# EAGLE library part PLCC32_PLUG (library 000001)
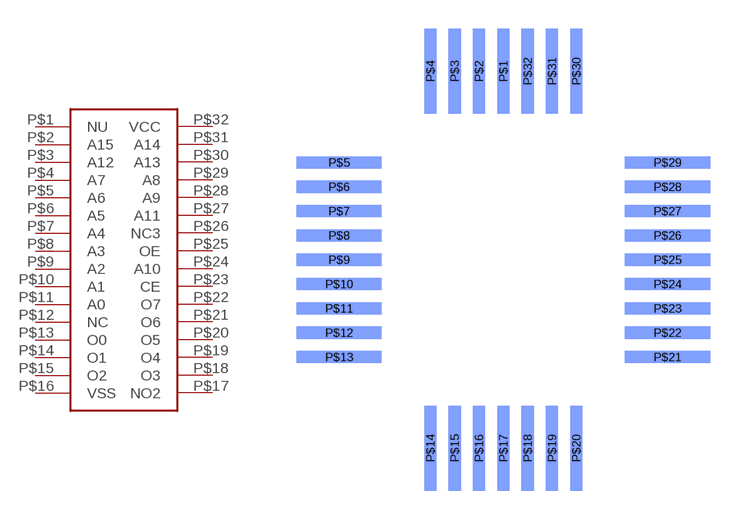
[diagram p59: symbol with the pads of PLCC32_PLUG_SMD; footprint PLCC32_PLUG_SMD]

Designator prefix -

## PLCC32_PLUG  [PLCC32_PLUG_SMD]
P$1  NU
P$2  A15
P$3  A12
P$4  A7
P$5  A6
P$6  A5
P$7  A4
P$8  A3
P$9  A2
P$10  A1
P$11  A0
P$12  NC
P$13  O0
P$14  O1
P$15  O2
P$16  VSS
P$17  NO2
P$18  O3
P$19  O4
P$20  O5
P$21  O6
P$22  O7
P$23  CE
P$24  A10
P$25  OE
P$26  NC3
P$27  A11
P$28  A9
P$29  A8
P$30  A13
P$31  A14
P$32  VCC

## Footprint PLCC32_PLUG_SMD (pad centres in mm)
smd 0.635 x 4.445 bottom: P$1 0,9.842; P$2 -1.27,9.842; P$3 -2.54,9.842; P$4 -3.81,9.842; P$14 -3.81,-9.842; P$15 -2.54,-9.842; P$16 -1.27,-9.842; P$17 0,-9.842; P$18 1.27,-9.842; P$19 2.54,-9.842; P$20 3.81,-9.842; P$30 3.81,9.842; P$31 2.54,9.842; P$32 1.27,9.842
smd 4.445 x 0.635 bottom: P$5 -8.572,5.08; P$6 -8.572,3.81; P$7 -8.572,2.54; P$8 -8.572,1.27; P$9 -8.572,0; P$10 -8.572,-1.27; P$11 -8.572,-2.54; P$12 -8.572,-3.81; P$13 -8.572,-5.08; P$21 8.572,-5.08; P$22 8.572,-3.81; P$23 8.572,-2.54; P$24 8.572,-1.27; P$25 8.572,0; P$26 8.572,1.27; P$27 8.572,2.54; P$28 8.572,3.81; P$29 8.572,5.08